# EAGLE library part MICROBUILDER_MDBT50 (library Adafruit nRF52840 Bluefruit Feather Express Rev D)
Raytac Corporation MDBT50 Bluetooth Low Energy Module based on Noridc nRF52840 Source: Raytac datasheet
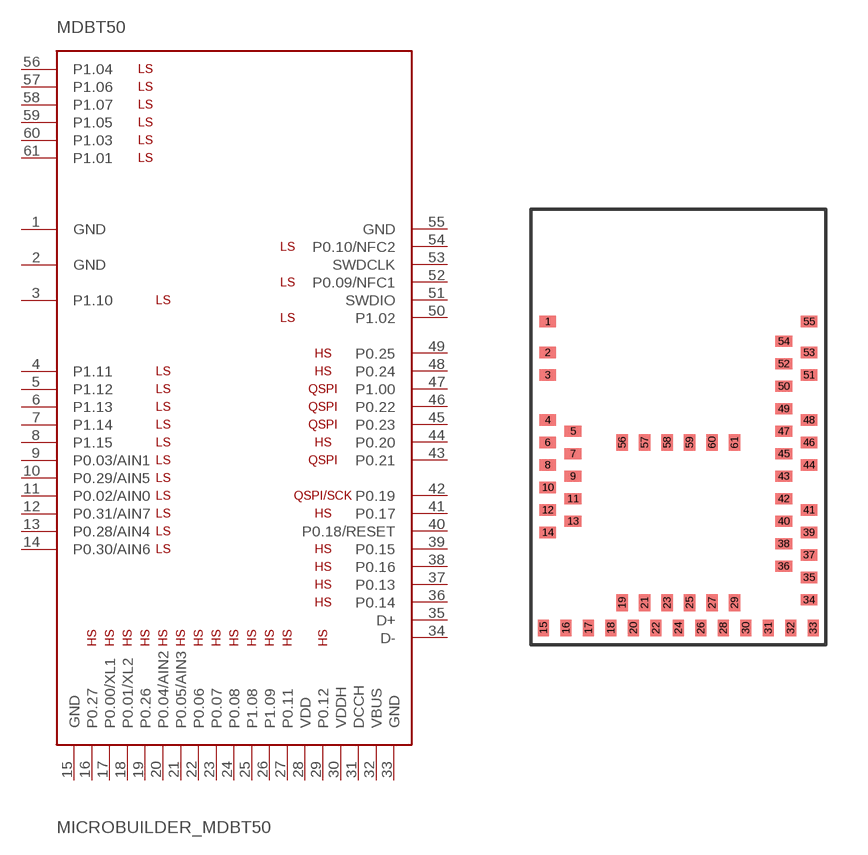
[diagram p2: symbol with the pads of MICROBUILDER_MDBT50; footprint MICROBUILDER_MDBT50]

Designator prefix MDBT50

## MICROBUILDER_MDBT50  [MICROBUILDER_MDBT50]
1  GND
2  GND
3  P1.10
4  P1.11
5  P1.12
6  P1.13
7  P1.14
8  P1.15
9  P0.03/AIN1
10  P0.29/AIN5
11  P0.02/AIN0
12  P0.31/AIN7
13  P0.28/AIN4
14  P0.30/AIN6
15  GND
16  P0.27
17  P0.00/XL1
18  P0.01/XL2
19  P0.26
20  P0.04/AIN2
21  P0.05/AIN3
22  P0.06
23  P0.07
24  P0.08
25  P1.08
26  P1.09
27  P0.11
28  VDD
29  P0.12
30  VDDH
31  DCCH
32  VBUS
33  GND
34  D-
35  D+
36  P0.14
37  P0.13
38  P0.16
39  P0.15
40  P0.18/RESET
41  P0.17
42  P0.19
43  P0.21
44  P0.20
45  P0.23
46  P0.22
47  P1.00
48  P0.24
49  P0.25
50  P1.02
51  SWDIO
52  P0.09/NFC1
53  SWDCLK
54  P0.10/NFC2
55  GND
56  P1.04
57  P1.06
58  P1.07
59  P1.05
60  P1.03
61  P1.01

## Footprint MICROBUILDER_MDBT50 (pad centres in mm)
smd 0.6 x 0.4: 1 -4.65,3.75; 2 -4.65,2.65; 3 -4.65,1.85; 4 -4.65,0.25; 5 -3.75,-0.15; 6 -4.65,-0.55; 7 -3.75,-0.95; 8 -4.65,-1.35; 9 -3.75,-1.75; 10 -4.65,-2.15; 11 -3.75,-2.55; 12 -4.65,-2.95; 13 -3.75,-3.35; 14 -4.65,-3.75; 34 4.65,-6.15; 35 4.65,-5.35; 36 3.75,-4.95; 37 4.65,-4.55; 38 3.75,-4.15; 39 4.65,-3.75; 40 3.75,-3.35; 41 4.65,-2.95; 42 3.75,-2.55; 43 3.75,-1.75; 44 4.65,-1.35; 45 3.75,-0.95; 46 4.65,-0.55; 47 3.75,-0.15; 48 4.65,0.25; 49 3.75,0.65; 50 3.75,1.45; 51 4.65,1.85; 52 3.75,2.25; 53 4.65,2.65; 54 3.75,3.05; 55 4.65,3.75
smd 0.4 x 0.6: 15 -4.8,-7.15; 16 -4,-7.15; 17 -3.2,-7.15; 18 -2.4,-7.15; 19 -2,-6.25; 20 -1.6,-7.15; 21 -1.2,-6.25; 22 -0.8,-7.15; 23 -0.4,-6.25; 24 0,-7.15; 25 0.4,-6.25; 26 0.8,-7.15; 27 1.2,-6.25; 28 1.6,-7.15; 29 2,-6.25; 30 2.4,-7.15; 31 3.2,-7.15; 32 4,-7.15; 33 4.8,-7.15; 56 -2,-0.55; 57 -1.2,-0.55; 58 -0.4,-0.55; 59 0.4,-0.55; 60 1.2,-0.55; 61 2,-0.55